# EAGLE library part SL-SW-2P-2T (library sw)
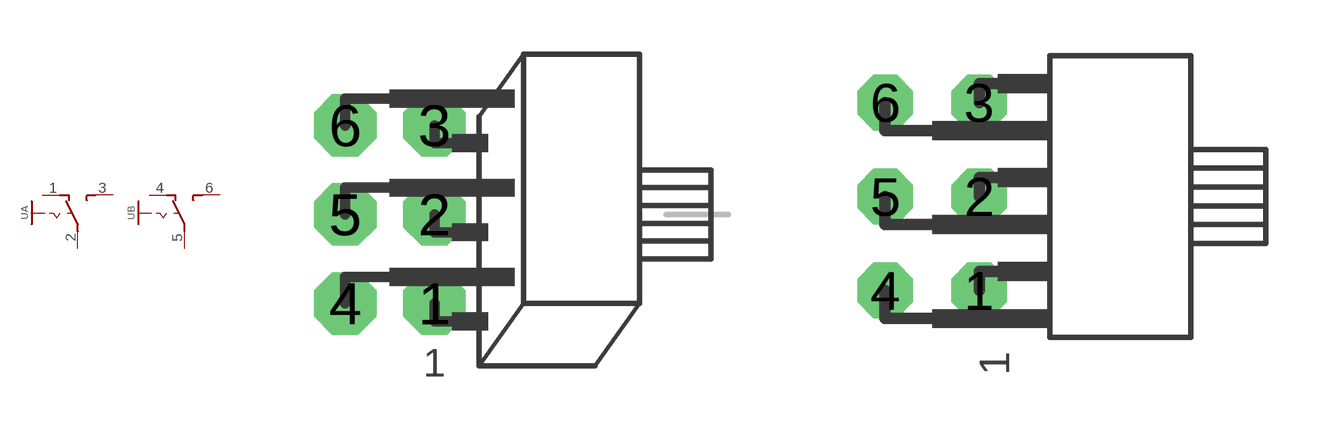
[diagram p1: symbol with the pads of SLSW-2P2T-3D; footprints SLSW-2P2T-3D, SLSW-2P2T-V]

Designator prefix -; gates A=SW-1P2T B=SW-1P2T

## SL-SW-2P-2TV3D  [SLSW-2P2T-3D]
1  A:O  pas
2  A:P  pas
3  A:S  pas
4  B:O  pas
5  B:P  pas
6  B:S  pas

## SL-SW-2P-2T-V  [SLSW-2P2T-V]
Pads as for SLSW-2P2T-3D

## SL-SW-2P-2T  [SLSW-2P2T]
Pads as for SLSW-2P2T-3D

## SL-SW-2P-2T-H  [SLSW-2P2T-H]
Pads as for SLSW-2P2T-3D

## Footprint SLSW-2P2T-3D (pad centres in mm)
drill 1.1 pad 1.778 octagon: 1 -2.54,-2.54; 2 -2.54,0; 3 -2.54,2.54; 4 -5.08,-2.54; 5 -5.08,0; 6 -5.08,2.54

## Footprint SLSW-2P2T-V (pad centres in mm)
drill 1 octagon: 1 0,-2.54; 2 0,0; 3 0,2.54; 4 -2.54,-2.54; 5 -2.54,0; 6 -2.54,2.54

## Footprint SLSW-2P2T (pad centres in mm)
drill 1.1 pad 1.524 octagon: 1 1.27,-2.54; 2 1.27,0; 3 1.27,2.54; 4 -1.27,-2.54; 5 -1.27,0; 6 -1.27,2.54

## Footprint SLSW-2P2T-H (pad centres in mm)
drill 1.1 pad 1.524 octagon: 1 2.54,1.27; 2 0,1.27; 3 -2.54,1.27; 4 2.54,-1.27; 5 0,-1.27; 6 -2.54,-1.27